# Altium schematic symbol library BMS 2S.SchLib: 1 symbol
Pins are listed as number, name and electrical type; pins without a type are passive.

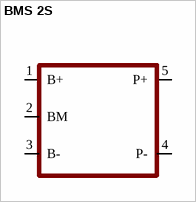
[diagram p0: symbol BMS 2S]

## BMS 2S
designator ?
footprint BMS 2S
pins: 1 B+, 2 BM, 3 B-, 4 P-, 5 P+